# Altium footprint library BD140_TO-126_BEND.PcbLib: 1 footprints
Each footprint in its own frame and in the unit in brackets; x right, y up, seen from the top. Pads: shape width x height; smd on the part's side, far side on the other; paste and mask are expansions set on the pad; w line width, h text height; cw(c..) or ccw(c..) is an arc to the next point about the centre after c.
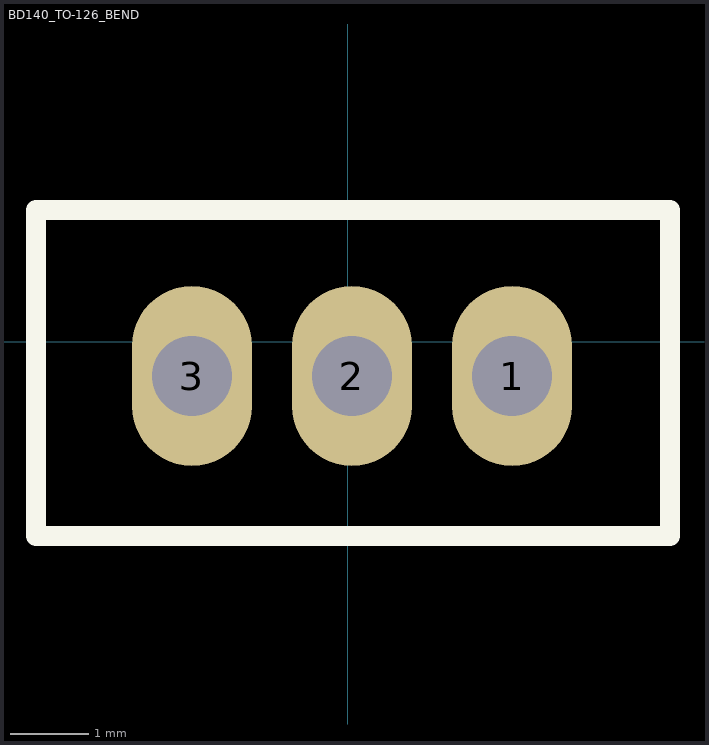
[diagram p0: the footprint, top view; thin cyan lines are the x and y axes]

## BD140_TO-126_BEND [mil]
pads (3):
  oval 60x90 hole 40: 1(82,-17) 2(2,-17) 3(-78,-17)
Top Overlay:
  lines w10: -156,-97 161,-97 161,66 -156,66 -156,-97
Bottom Overlay:
  lines w10: -155,-98 162,-98 162,64 -155,64 -155,-98
3D body "TO-126 (bend).STEP": height 916.54, standoff -63.78, extent -155.48,-43.73 159.48,98